# Altium footprint library OKmePCBLibrary.PcbLib: 194 footprints (part 9 of 13)
Each footprint in its own frame and in the unit in brackets; x right, y up, seen from the top. Pads: shape width x height; smd on the part's side, far side on the other; paste and mask are expansions set on the pad; w line width, h text height; cw(c..) or ccw(c..) is an arc to the next point about the centre after c.
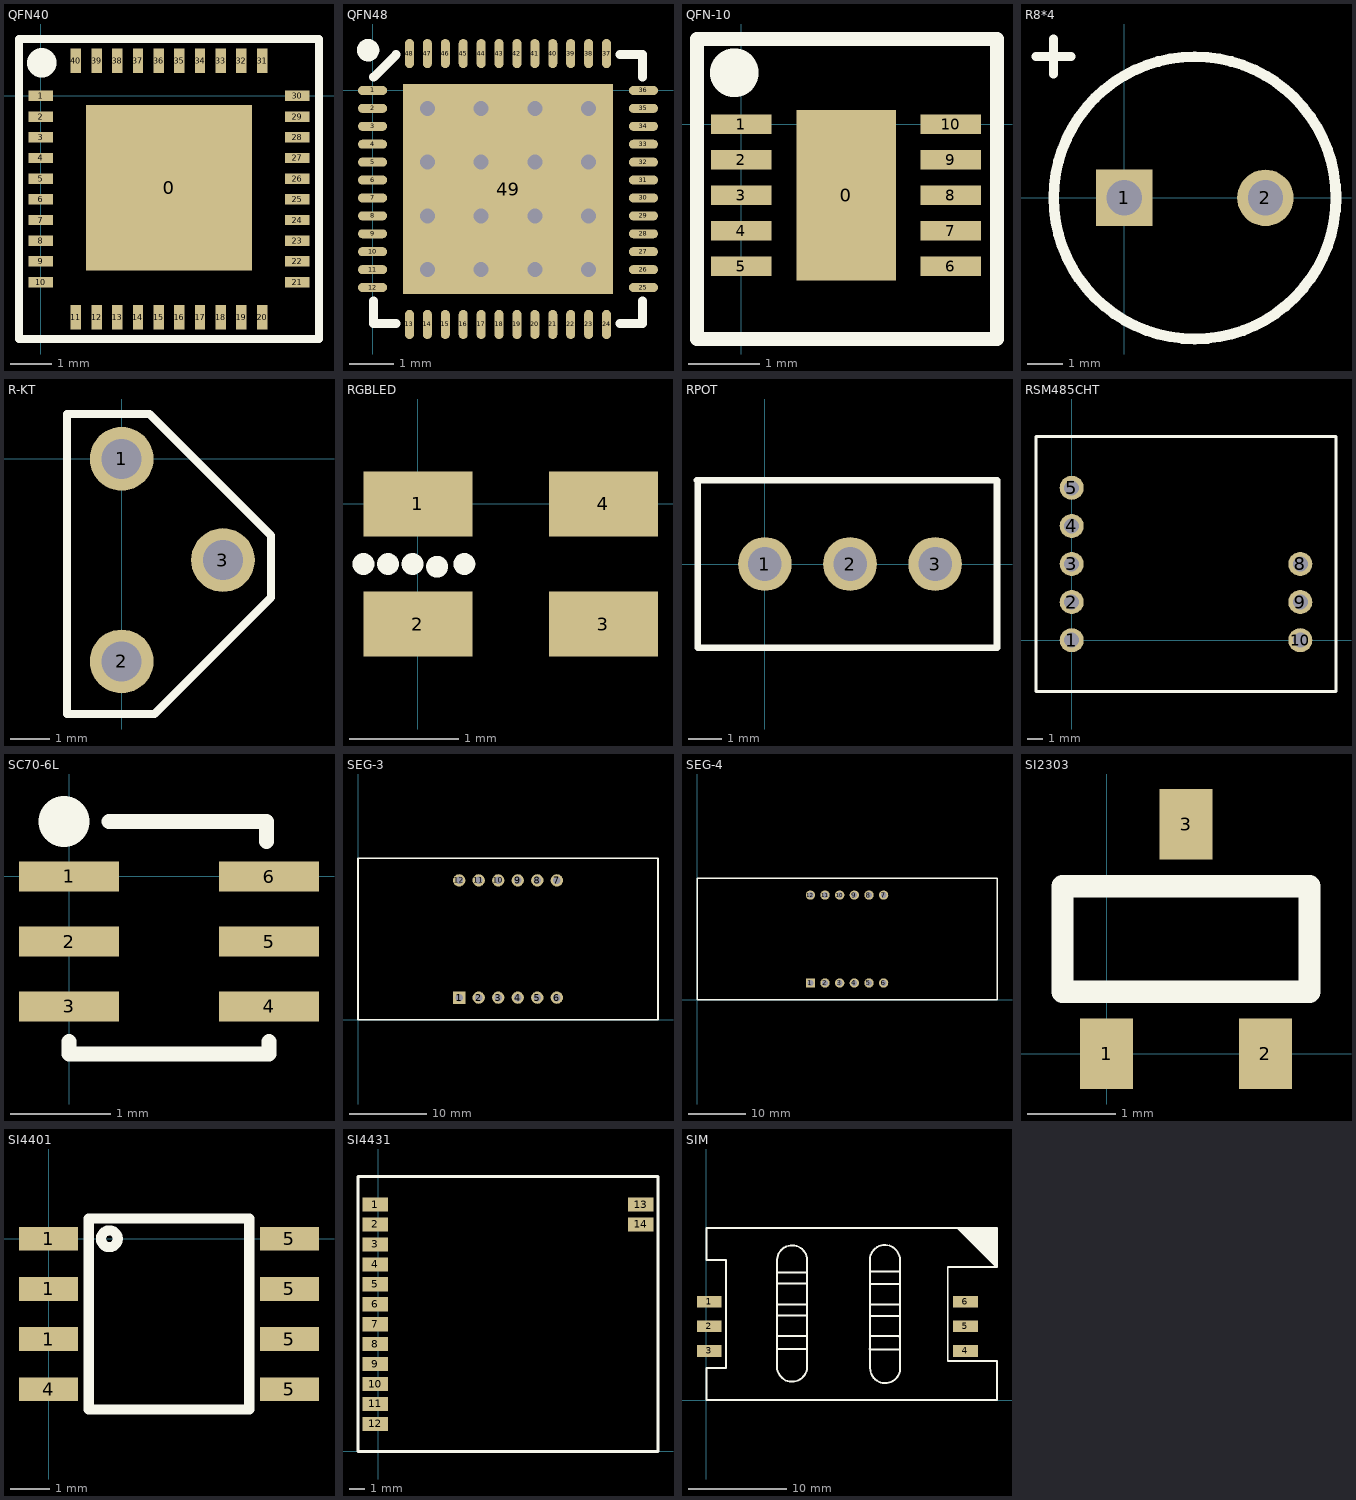
[diagram p8: the footprints below, top view; thin cyan lines are the x and y axes]

## QFN40 [mm]
pads (41):
  rect 4x4 smd: 0(3.1,-2.225)
  rect 0.6x0.25 smd: 1(0,0) 2(0,-0.5) 3(0,-1) 4(0,-1.5) 5(0,-2) 6(0,-2.5) 7(0,-3) 8(0,-3.5) 9(0,-4) 10(0,-4.5) 21(6.2,-4.5) 22(6.2,-4) 23(6.2,-3.5) 24(6.2,-3) 25(6.2,-2.5) 26(6.2,-2) 27(6.2,-1.5) 28(6.2,-1) 29(6.2,-0.5) 30(6.2,0)
  rect 0.25x0.6 smd: 11(0.85,-5.35) 12(1.35,-5.35) 13(1.85,-5.35) 14(2.35,-5.35) 15(2.85,-5.35) 16(3.35,-5.35) 17(3.85,-5.35) 18(4.35,-5.35) 19(4.85,-5.35) 20(5.35,-5.35) 31(5.35,0.85) 32(4.85,0.85) 33(4.35,0.85) 34(3.85,0.85) 35(3.35,0.85) 36(2.85,0.85) 37(2.35,0.85) 38(1.85,0.85) 39(1.35,0.85) 40(0.85,0.85)
Top Overlay:
  circle w0.635: c0.025,0.8 r0.035
  lines w0.2: -0.525,1.375 -0.525,-5.875 6.725,-5.875 6.725,1.375 -0.5,1.375

## QFN48 [mm]
pads (49):
  oval 0.65x0.2 smd: 1(0,0) 2(0,-0.4) 3(0,-0.8) 4(0,-1.2) 5(0,-1.6) 6(0,-2) 7(0,-2.4) 8(0,-2.8) 9(0,-3.2) 10(0,-3.6) 11(0,-4) 12(0,-4.4) 25(6.05,-4.4) 26(6.05,-4) 27(6.05,-3.6) 28(6.05,-3.2) 29(6.05,-2.8) 30(6.05,-2.4) 31(6.05,-2) 32(6.05,-1.6) 33(6.05,-1.2) 34(6.05,-0.8) 35(6.05,-0.4) 36(6.05,0)
  oval 0.2x0.65 smd: 13(0.825,-5.225) 14(1.225,-5.225) 15(1.625,-5.225) 16(2.025,-5.225) 17(2.425,-5.225) 18(2.825,-5.225) 19(3.225,-5.225) 20(3.625,-5.225) 21(4.025,-5.225) 22(4.425,-5.225) 23(4.825,-5.225) 24(5.225,-5.225) 37(5.225,0.825) 38(4.825,0.825) 39(4.425,0.825) 40(4.025,0.825) 41(3.625,0.825) 42(3.225,0.825) 43(2.825,0.825) 44(2.425,0.825) 45(2.025,0.825) 46(1.625,0.825) 47(1.225,0.825) 48(0.825,0.825)
  rect 4.7x4.7 smd: 49(3.025,-2.2)
via 4.825,-4 diameter 0.66 hole 0.33
via 3.625,-4 diameter 0.66 hole 0.33
via 2.425,-4 diameter 0.66 hole 0.33
via 1.225,-4 diameter 0.66 hole 0.33
via 4.825,-2.8 diameter 0.66 hole 0.33
via 3.625,-2.8 diameter 0.66 hole 0.33
via 2.425,-2.8 diameter 0.66 hole 0.33
via 1.225,-2.8 diameter 0.66 hole 0.33
via 4.825,-1.6 diameter 0.66 hole 0.33
via 3.625,-1.6 diameter 0.66 hole 0.33
via 2.425,-1.6 diameter 0.66 hole 0.33
via 1.225,-1.6 diameter 0.66 hole 0.33
via 4.825,-0.4 diameter 0.66 hole 0.33
via 3.625,-0.4 diameter 0.66 hole 0.33
via 2.425,-0.4 diameter 0.66 hole 0.33
via 1.225,-0.4 diameter 0.66 hole 0.33
Top Overlay:
  circle w0.25: c-0.1,0.9 r0.125
  lines w0.2: 0.025,-4.7 0.025,-5.2 0.525,-5.2 ; 0.025,0.3 0.525,0.8 ; 5.525,-5.2 6.025,-5.2 6.025,-4.7 ; 5.525,0.8 6.025,0.8 6.025,0.3

## QFN-10 [mm]
pads (11):
  rect 1.4x2.4 smd: 0(1.475,-1)
  rect 0.85x0.28 smd: 1(0,0) 2(0,-0.5) 3(0,-1) 4(0,-1.5) 5(0,-2) 6(2.95,-2) 7(2.95,-1.5) 8(2.95,-1) 9(2.95,-0.5) 10(2.95,0)
Top Overlay:
  circle w0.635: c-0.1,0.725 r0.025
  lines w0.2: -0.625,-3.025 3.6,-3.025 3.6,1.2 -0.625,1.2 -0.625,-3.025

## Quad40 [mm]

## R8*4 [mm]
pads (2):
  rect 1.6x1.6 hole 1: 1(0,0)
  round 1.6 hole 1: 2(4,0)
Top Overlay:
  circle w0.3: c2,0 r4
  lines w0.25: -2.5,4 -1.5,4 ; -2,3.5 -2,4.5

## R-KT [mm]
pads (3):
  round 1.6 hole 1: 1(0,0) 2(0,-5.08) 3(2.54,-2.54)
Top Overlay:
  lines w0.203: -1.375,-6.4 -1.375,1.125 0.7,1.125 3.75,-1.925 3.75,-3.475 0.825,-6.4 -1.375,-6.4

## RGBLED [mm]
pads (4):
  rect 1x0.6 smd: 1(0,0) 2(0,-1.1) 3(1.7,-1.1) 4(1.7,0)
Top Overlay:
  circle w0.1: c0.425,-0.55 r0.05
  circle w0.1: c0.175,-0.575 r0.05
  circle w0.1: c-0.05,-0.55 r0.05
  circle w0.1: c-0.275,-0.55 r0.05
  circle w0.1: c-0.5,-0.55 r0.05

## RPOT [mm]
pads (3):
  round 1.6 hole 1: 1(0,0) 2(2.54,0) 3(5.08,0)
Top Overlay:
  lines w0.203: -2.025,2.5 -2,2.475 -2,1.375 -2,-1.525 -2,-2.5 -1.275,-2.5 6.925,-2.5 6.925,1.475 6.925,2.5 -0.75,2.5 -2.025,2.5

## RSM485CHT [mm]
pads (8):
  round 1.6 hole 1: 1(0,0) 2(0,2.54) 3(0,5.08) 4(0,7.62) 5(0,10.16) 8(15.24,5.08) 9(15.24,2.54) 10(15.24,0)
Top Overlay:
  lines w0.2: -2.38,-3.42 -2.38,13.58 17.62,13.58 17.62,-3.42 -2.38,-3.42

## SC70-6L [mm]
pads (6):
  rect 1x0.3 smd: 1(0,0) 2(0,-0.65) 3(0,-1.3) 4(2,-1.3) 5(2,-0.65) 6(2,0)
Top Overlay:
  lines w0.15: 0,-1.65 0,-1.775 2,-1.775 2,-1.65 ; 1.975,0.35 1.975,0.55 ; 0.4,0.55 1.975,0.55 ; 0.4,0.55 0.4,0.55 ; 1.975,0.55 1.975,0.55 ; 1.975,0.55 1.975,0.55
  lines w0.508: -0.05,0.55 ccw(c-0.05,0.55) -0.05,0.55

## SEG-3 [mm]
pads (12):
  rect 1.6x1.6 hole 1: 1(13.15,2.875)
  round 1.6 hole 1: 2(15.69,2.875) 3(18.23,2.875) 4(20.77,2.875) 5(23.31,2.875) 6(25.85,2.875) 7(25.85,18.115) 8(23.31,18.115) 9(20.77,18.115) 10(18.23,18.115) 11(15.69,18.115) 12(13.15,18.115)
Top Overlay:
  lines w0.25: 0,-0.005 39,-0.005 ; 0,0 0,20.975 ; 0.025,20.995 39,20.995 ; 39,0 39,20.975

## SEG-4 [mm]
pads (12):
  rect 1.6x1.6 hole 1: 1(19.65,2.875)
  round 1.6 hole 1: 2(22.19,2.875) 3(24.73,2.875) 4(27.27,2.875) 5(29.81,2.875) 6(32.35,2.875) 7(32.35,18.115) 8(29.81,18.115) 9(27.27,18.115) 10(24.73,18.115) 11(22.19,18.115) 12(19.65,18.115)
Top Overlay:
  lines w0.25: 0.02,20.995 0,20.975 0,0 52,0 52,20.995 ; 0.02,21 52,21

## SI2303 [mm]
pads (3):
  rect 0.6x0.8 smd: 1(0,0) 2(1.8,0) 3(0.9,2.6)
Top Overlay:
  lines w0.254: -0.5,0.7 2.3,0.7 2.3,1.9 -0.5,1.9 -0.5,0.7

## SI4401 [mm]
pads (8):
  rect 1.5x0.6 smd: 1(0,-2.54) 1(0,-1.27) 1(0,0) 4(0,-3.81) 5(6.096,-3.81) 5(6.096,-2.54) 5(6.096,-1.27) 5(6.096,0)
Top Overlay:
  circle w0.254: c1.538,0 r0.212
  lines w0.254: 1.016,-4.318 1.016,0.508 5.08,0.508 5.08,-4.318 1.016,-4.318

## SI4431 [mm]
pads (14):
  rect 1.6x0.9 smd: 1(-0.2,15.72) 2(-0.2,14.45) 3(-0.2,13.18) 4(-0.2,11.91) 5(-0.2,10.64) 6(-0.2,9.37) 7(-0.2,8.1) 8(-0.2,6.83) 9(-0.2,5.56) 10(-0.2,4.29) 11(-0.2,3.02) 12(-0.2,1.75) 13(16.7,15.72) 14(16.7,14.45)
Top Overlay:
  lines w0.2: 17.775,0 -1.3,0 -1.3,17.5 17.8,17.5 17.8,0

## SIM [mm]
pads (6):
  rect 2.5x1.2 smd: 1(0.3,10) 2(0.3,7.5) 3(0.3,5) 4(26.3,5) 5(26.3,7.5) 6(26.3,10)
Top Overlay:
  region: 29.5,13.55 29.325,13.55 25.375,17.5 29.5,17.5
  region: 27.075,17.5 29.2,15.375 29.5,15.375 29.5,17.5
  lines w0.2: 0.8,14.25 0,14.25 ; 7.15,3.225 7.15,14.275 ; 7.15,8.6 10.15,8.6 10.225,8.525 ; 7.15,9.7 10.175,9.7 10.225,9.65 ; 7.15,11.85 10.15,11.85 ; 7.15,12.975 10.15,12.975 10.175,12.95 ; 7.175,3.4 ccw(c8.7,3.4) 10.223,3.329 ; 7.177,14.271 cw(c8.7,14.2) 10.225,14.2 ; 7.2,12.95 10.2,12.95 ; 10.125,5.175 7.2,5.175 7.15,5.225 7.15,6.6 7.25,6.5 10.2,6.5 ; 10.2,3.225 10.2,14.275 ; 16.575,5.175 16.6,5.15 19.675,5.15 ; 16.6,3.225 16.6,14.275 ; 16.6,8.525 19.625,8.525 19.675,8.475 ; 16.6,9.725 19.675,9.725 ; 16.6,11.775 19.625,11.775 ; 16.6,13.075 19.6,13.075 ; 16.602,14.296 cw(c18.125,14.225) 19.65,14.225 ; 16.625,3.25 ccw(c18.15,3.25) 19.673,3.179 ; 16.7,6.5 19.675,6.5 19.6,6.425 ; 19.675,3.225 19.675,14.275 ; 26.3,17.5 27.1,17.5 29.5,15.1 ; 28.9,4 29.5,4 ; 28.925,13.5 29.5,13.5 ; 29.5,13.975 29.5,17.5 ; 0,14.25 0,17.5 ; 0,14.25 2,14.25 2,3.25 0,3.25 0,0 0.5,0 29.5,0 ; 0,14.25 0,17.5 ; 0,17.5 0.5,17.5 29.5,17.5 ; 29.5,0 29.5,3.5 29.5,0 ; 29.5,0 29.5,3.525 29.5,0 ; 29.5,0 29.5,4 ; 29.5,4 24.5,4 24.5,13.5 29.5,13.5 ; 29.5,13.5 29.5,17.5 ; 29.5,17.5 29.5,14 29.5,17.5